# EAGLE library part JUMPER-ABC2 (library mylib)
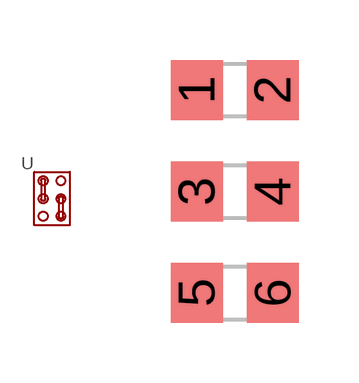
[diagram p20: symbol with the pads of JUMPER-ABC; footprint JUMPER-ABC]

Designator prefix -

## JUMPER-ABC2  [JUMPER-ABC]
1  1
2  2
3  3
4  4
5  5
6  6

## Footprint JUMPER-ABC (pad centres in mm)
smd 1.3 x 1.5: 1 -0.95,2.54; 2 0.95,2.54; 3 -0.95,0; 4 0.95,0; 5 -0.95,-2.54; 6 0.95,-2.54